# Altium schematic symbol library SCH - ARM CORTEX - STM STM32L010K8Tx.SchLib: 1 symbol
Pins are listed as number, name and electrical type; pins without a type are passive.

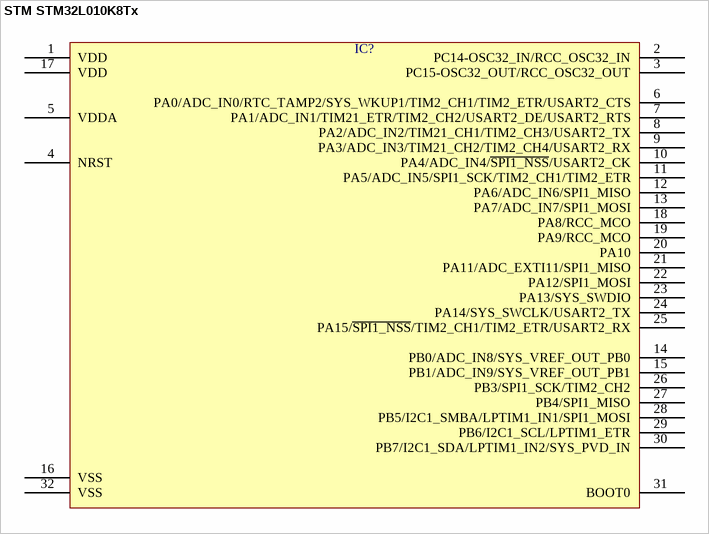
[diagram p0: symbol STM STM32L010K8Tx]

## STM STM32L010K8Tx
designator IC?  (value not drawn)
pins: 1 VDD, 2 PC14-OSC32_IN/RCC_OSC32_IN, 3 PC15-OSC32_OUT/RCC_OSC32_OUT, 4 NRST, 5 VDDA, 6 PA0/ADC_IN0/RTC_TAMP2/SYS_WKUP1/TIM2_CH1/TIM2_ETR/USART2_CTS, 7 PA1/ADC_IN1/TIM21_ETR/TIM2_CH2/USART2_DE/USART2_RTS, 8 PA2/ADC_IN2/TIM21_CH1/TIM2_CH3/USART2_TX, 9 PA3/ADC_IN3/TIM21_CH2/TIM2_CH4/USART2_RX, 10 PA4/ADC_IN4/~{SPI1_NSS}/USART2_CK, 11 PA5/ADC_IN5/SPI1_SCK/TIM2_CH1/TIM2_ETR, 12 PA6/ADC_IN6/SPI1_MISO, 13 PA7/ADC_IN7/SPI1_MOSI, 14 PB0/ADC_IN8/SYS_VREF_OUT_PB0, 15 PB1/ADC_IN9/SYS_VREF_OUT_PB1, 16 VSS, 17 VDD, 18 PA8/RCC_MCO, 19 PA9/RCC_MCO, 20 PA10, 21 PA11/ADC_EXTI11/SPI1_MISO, 22 PA12/SPI1_MOSI, 23 PA13/SYS_SWDIO, 24 PA14/SYS_SWCLK/USART2_TX, 25 PA15/~{SPI1_NSS}/TIM2_CH1/TIM2_ETR/USART2_RX, 26 PB3/SPI1_SCK/TIM2_CH2, 27 PB4/SPI1_MISO, 28 PB5/I2C1_SMBA/LPTIM1_IN1/SPI1_MOSI, 29 PB6/I2C1_SCL/LPTIM1_ETR, 30 PB7/I2C1_SDA/LPTIM1_IN2/SYS_PVD_IN, 31 BOOT0, 32 VSS